# EAGLE library part FTDI_DEVICE (library USB-miniSocket-justPower)
Connector which mates to FTDI basic or FTDI cable.
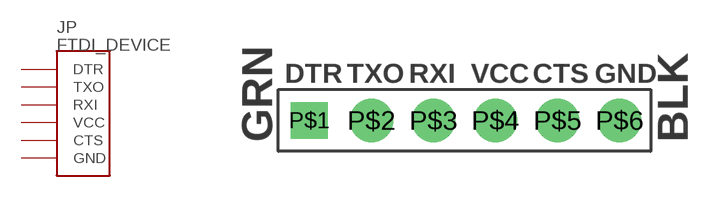
[diagram p69: symbol with the pads of FTDI_DEVICE_SIDE; footprint FTDI_DEVICE_SIDE]

Designator prefix JP

## FTDI_DEVICE  [FTDI_DEVICE_SIDE]
P$1  DTR
P$2  TXO
P$3  RXI
P$4  VCC
P$5  CTS
P$6  GND

## Footprint FTDI_DEVICE_SIDE (pad centres in mm)
Package for devices meant to mate to an FTDI connector.
drill 1 square: P$1 -6.35,0
drill 1.016 pad 1.778: P$2 -3.81,0; P$3 -1.27,0; P$4 1.27,0; P$5 3.81,0; P$6 6.35,0